# Altium footprint library 2.62-SMD.PcbLib: 45 footprints (part 2 of 3)
Each footprint in its own frame and in the unit in brackets; x right, y up, seen from the top. Pads: shape width x height; smd on the part's side, far side on the other; paste and mask are expansions set on the pad; w line width, h text height; cw(c..) or ccw(c..) is an arc to the next point about the centre after c.
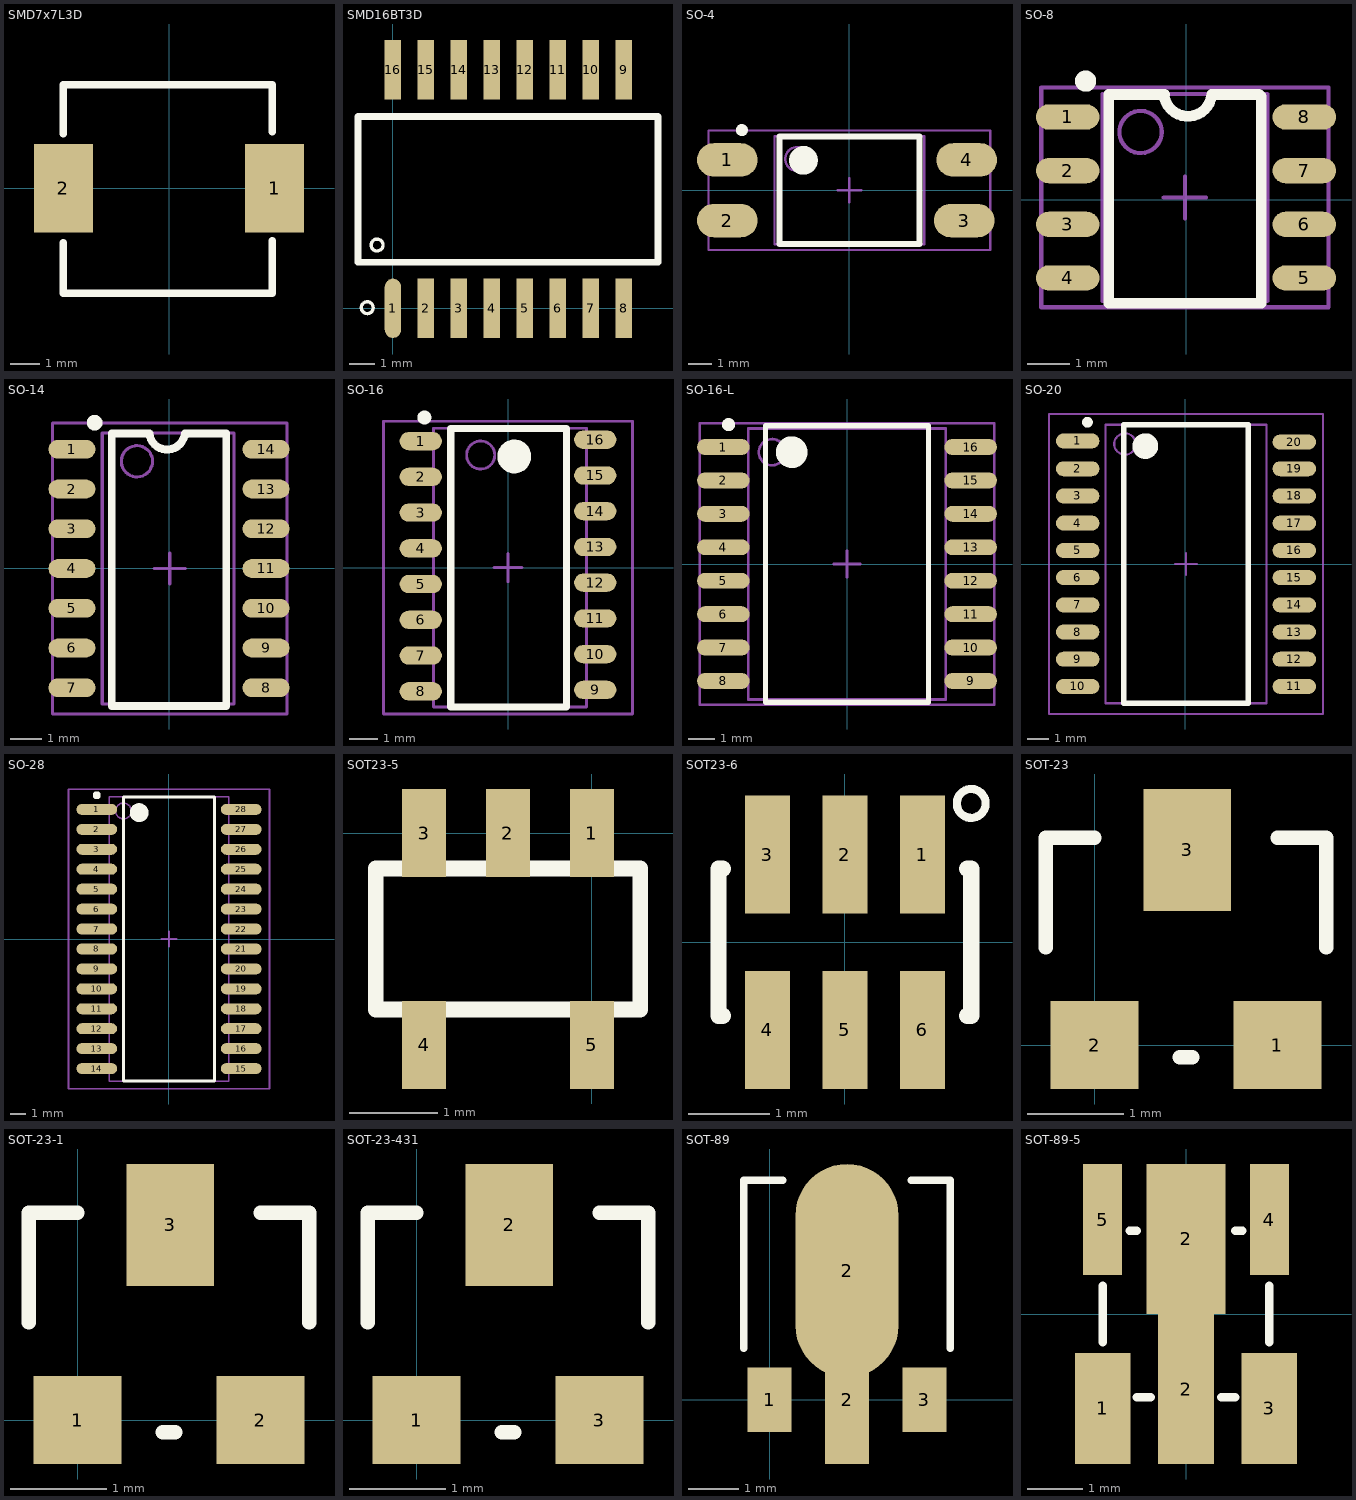
[diagram p1: the footprints below, top view; thin cyan lines are the x and y axes]

## SMD7x7L3D [mm]
height 3.5
pads (2):
  rect 2x3 smd: 1(3.561,0) 2(-3.561,0)
Top Overlay:
  lines w0.254: -3.561,-1.834 -3.561,-3.548 3.489,-3.548 3.488,-1.779 ; -3.561,1.849 -3.561,3.5 3.489,3.5 3.488,1.911
3D body: height 2.45, standoff 0.03, extent -3.429,-3.302 3.429,3.302

## SMD16BT3D [mil]
height 23.62
pads (16):
  oval 25x90 smd: 1(0,0)
  rect 25x90 smd: 2(50,0) 3(100,0) 4(150,0) 5(200,0) 6(250,0) 7(300,0) 8(350,0) 9(350,362) 10(300,362) 11(250,362) 12(200,362) 13(150,362) 14(100,362) 15(50,362) 16(0,362)
Top Overlay:
  circle w5: c-24,96 r9
  circle w5: c-39,1 r9
  lines w10: -53,70 -53,291 402,291 402,70 -53,70
3D body: height 96.46, standoff 1.09, extent -67.38,55.17 417.62,305.17

## SO-4 [mm] "SOP, 4-Leads, Body 4.5x6.3mm (max), Pitch 2.54mm, IPC Medium Density"
height 3.9
pads (4):
  oval 2.54x1.4 smd: 1(-5.11,1.27) 2(-5.11,-1.27) 3(4.805,-1.27) 4(4.906,1.27)
Top Overlay:
  circle w0.25: c-4.5,2.52 r0.125
  circle w0.6: c-1.925,1.25 r0.3
  lines w0.254: -2.925,-2.25 -2.925,2.25 2.925,2.25 2.925,-2.25 -2.925,-2.25
Mechanical 13:
  circle w0.1: c-2.185,1.31 r0.5
  lines w0.1: -3.135,-2.26 -3.135,2.26 3.135,2.26 3.135,-2.26 -3.135,-2.26
Mechanical 15:
  lines w0.1: -0.5,0 0.5,0 ; 0,-0.5 0,0.5 ; -5.9,-2.5 -5.9,2.5 5.9,2.5 5.9,-2.5 -5.9,-2.5
3D body "User Library-DIP4_opto_iso.STEP": height 3.94, standoff 0.04, extent -5.066,-2.489 4.964,2.342

## SO-8 [mm]
pads (8):
  oval 1.5x0.6 smd: 1(-2.8,1.956) 2(-2.8,0.686) 3(-2.8,-0.584) 4(-2.8,-1.854) 5(2.8,-1.854) 6(2.8,-0.584) 7(2.8,0.686) 8(2.8,1.956)
Top Overlay:
  circle w0.25: c-2.375,2.806 r0.125
  lines w0.254: -0.522,2.488 ccw(c0.044,2.54) 0.61,2.489 1.727,2.489 1.778,2.438 1.778,-2.449 -1.829,-2.449 -1.829,2.489 -0.508,2.489
Mechanical 13:
  circle w0.1: c-1.075,1.601 r0.5
  lines w0.1: -1.975,-2.399 1.925,-2.399 1.925,2.501 -1.975,2.501 -1.975,-2.399
Mechanical 15:
  lines w0.1: -0.525,0.051 0.475,0.051 ; -0.025,-0.449 -0.025,0.551 ; -3.425,-2.549 3.375,-2.549 3.375,2.651 -3.425,2.651 -3.425,-2.549
3D body "SO-8.STEP": height -0.38, standoff -2.08, extent -3,-2.411 3,2.489

## SO-14 [mm] "1.25mm/6.2mm"
pads (14):
  oval 1.5x0.6 smd: 1(-3.1,3.81) 2(-3.1,2.54) 3(-3.1,1.27) 4(-3.1,0) 5(-3.1,-1.27) 6(-3.1,-2.54) 7(-3.1,-3.81) 8(3.1,-3.81) 9(3.1,-2.54) 10(3.1,-1.27) 11(3.1,0) 12(3.1,1.27) 13(3.1,2.54) 14(3.1,3.81)
Top Overlay:
  circle w0.25: c-2.375,4.66 r0.125
  lines w0.254: -0.66,4.318 -1.829,4.318 -1.829,-4.4 1.829,-4.4 1.829,4.318 0.559,4.318 ; -0.626,4.317 ccw(c-0.06,4.369) 0.506,4.318
Mechanical 13:
  circle w0.1: c-1.025,3.425 r0.5
  lines w0.1: -2.134,-4.325 -2.134,4.325 2.083,4.325 2.083,-4.325 -2.134,-4.325
Mechanical 15:
  lines w0.1: -0.475,0 0.525,0 ; 0.025,-0.5 0.025,0.5 ; -3.725,-4.65 -3.725,4.65 3.775,4.65 3.775,-4.65 -3.725,-4.65
3D body "so14.step": height 1.55, standoff 0, extent -2.946,-4.325 3.054,4.325

## SO-16 [mm]
height 1.35
pads (16):
  oval 1.5x0.65 smd: 1(-3.1,4.496) 2(-3.1,3.226) 3(-3.1,1.956) 4(-3.1,0.686) 5(-3.1,-0.584) 6(-3.1,-1.854) 7(-3.1,-3.124) 8(-3.1,-4.394) 9(3.1,-4.343) 10(3.1,-3.073) 11(3.1,-1.803) 12(3.1,-0.533) 13(3.1,0.737) 14(3.1,2.007) 15(3.1,3.277) 16(3.1,4.547)
Top Overlay:
  circle w0.25: c-2.97,5.334 r0.125
  circle w0.6: c0.225,3.95 r0.3
  lines w0.254: -2.032,-4.95 -2.032,4.95 2.083,4.95 2.083,-4.95 -2.032,-4.95
Mechanical 13:
  circle w0.1: c-0.97,4 r0.5
  lines w0.1: -2.642,-4.95 -2.642,4.95 2.794,4.95 2.794,-4.95 -2.642,-4.95
Mechanical 15:
  lines w0.1: -0.5,0 0.5,0 ; 0,-0.5 0,0.5 ; -4.42,-5.2 -4.42,5.2 4.42,5.2 4.42,-5.2 -4.42,-5.2
3D body "D0016A.stp": height 1.64, standoff 0.04, extent -2.946,-4.851 3.048,5.055

## SO-16-L [mm] "16-Pin Small Outline Integrated Circuit 1.27 mm Pitch, IPC High Density"
height 2.65
pads (16):
  oval 2x0.6 smd: 1(-4.7,4.445) 2(-4.7,3.175) 3(-4.7,1.905) 4(-4.7,0.635) 5(-4.7,-0.635) 6(-4.7,-1.905) 7(-4.7,-3.175) 8(-4.7,-4.445) 9(4.7,-4.445) 10(4.7,-3.175) 11(4.7,-1.905) 12(4.7,-0.635) 13(4.7,0.635) 14(4.7,1.905) 15(4.7,3.175) 16(4.7,4.445)
Top Overlay:
  circle w0.25: c-4.5,5.295 r0.125
  circle w0.6: c-2.1,4.25 r0.3
  lines w0.2: -3.1,-5.25 -3.1,5.25 3.1,5.25 3.1,-5.25 -3.1,-5.25
Mechanical 13:
  circle w0.1: c-2.85,4.25 r0.5
  lines w0.1: -3.75,-5.15 -3.75,5.15 3.75,5.15 3.75,-5.15 -3.75,-5.15
Mechanical 15:
  lines w0.1: -0.5,0 0.5,0 ; 0,-0.5 0,0.5 ; -5.6,-5.35 -5.6,5.35 5.6,5.35 5.6,-5.35 -5.6,-5.35
3D body "User Library-SOIC16-300.STEP": height 2.65, standoff 0, extent -5.182,-5.144 5.118,5.156

## SO-20 [mil]
pads (20):
  oval 80x27.56 smd: 1(-198,226) 2(-198,175) 3(-198,125) 4(-198,75) 5(-198,25) 6(-198,-25) 7(-198,-75) 8(-198,-125) 9(-198,-175) 10(-198,-225) 11(200,-225) 12(200,-175) 13(200,-125) 14(200,-75) 15(200,-25) 16(200,25) 17(200,75) 18(200,125) 19(200,175) 20(200,224)
Top Overlay:
  circle w23.62: c-73.8,216.54 r11.81
  circle w9.84: c-180.1,260.43 r4.92
  lines w10: -113.17,-255.91 -113.17,255.91 115.17,255.91 115.17,-255.91 -113.17,-255.91
Mechanical 13:
  circle w3.94: c-111.2,220.47 r19.68
  lines w3.94: -146.64,-255.91 -146.64,255.91 148.64,255.91 148.64,-255.91 -146.64,-255.91
Mechanical 15:
  lines w3.94: -18.68,0 20.69,0 ; 1,-19.68 1,19.68 ; -250.97,-275.59 -250.97,275.59 252.97,275.59 252.97,-275.59 -250.97,-275.59
3D body "User Library-SOIC20-300.STEP": height 104.33, standoff 0, extent -200,-251.97 205.51,251.97

## SO-28 [mm] "SOIC, 28-Leads, Body 17.9x7.5mm, Pitch 1.27mm, IPC Low Density"
height 2.65
pads (28):
  oval 2.6x0.7 smd: 1(-4.6,8.255) 2(-4.6,6.985) 3(-4.6,5.715) 4(-4.6,4.445) 5(-4.6,3.175) 6(-4.6,1.905) 7(-4.6,0.635) 8(-4.6,-0.635) 9(-4.6,-1.905) 10(-4.6,-3.175) 11(-4.6,-4.445) 12(-4.6,-5.715) 13(-4.6,-6.985) 14(-4.6,-8.255) 15(4.6,-8.255) 16(4.6,-6.985) 17(4.6,-5.715) 18(4.6,-4.445) 19(4.6,-3.175) 20(4.6,-1.905) 21(4.6,-0.635) 22(4.6,0.635) 23(4.6,1.905) 24(4.6,3.175) 25(4.6,4.445) 26(4.6,5.715) 27(4.6,6.985) 28(4.6,8.255)
Top Overlay:
  circle w0.25: c-4.6,9.155 r0.125
  circle w0.6: c-1.9,8.05 r0.3
  lines w0.2: -2.9,-9.05 -2.9,9.05 2.9,9.05 2.9,-9.05 -2.9,-9.05
Mechanical 13:
  circle w0.1: c-2.9,8.155 r0.5
  lines w0.1: -3.8,-9.055 -3.8,9.055 3.8,9.055 3.8,-9.055 -3.8,-9.055
Mechanical 15:
  lines w0.1: -0.5,0 0.5,0 ; 0,-0.5 0,0.5 ; -6.4,-9.55 -6.4,9.55 6.4,9.55 6.4,-9.55 -6.4,-9.55
3D body "User Library-80072036 SO28.STEP": height 2.63, standoff -0.01, extent -5.335,-9.038 5.335,9.042

## SOT23-5 [mm]
pads (5):
  rect 0.5x1 smd: 1(0,0) 2(-0.95,0) 3(-1.9,0) 4(-1.9,-2.4) 5(0,-2.4)
Top Overlay:
  lines w0.178: -2.45,-2 0.55,-2 0.55,-0.4 -2.45,-0.4 -2.45,-2
3D body "User Library-SOT23-5.STEP": height 1.09, standoff -0.01, extent -2.399,-2.599 0.5,0.201

## SOT23-6 [mm] "SOT-23/SC-74A; 5 Leads; Body 3.1 x 3 mm, inc. leads (LxW max)"
height 1.45
pads (6):
  rect 0.55x1.45 smd: 1(0.95,1.075) 2(0,1.075) 3(-0.95,1.075) 4(-0.95,-1.075) 5(0,-1.075) 6(0.95,-1.075)
Top Overlay:
  circle w0.1: c1.549,1.702 r0.177
  lines w0.2: -1.5,-0.9 -1.55,-0.9 -1.55,0.9 -1.5,0.9 ; 1.5,-0.9 1.55,-0.9 1.55,0.9 1.5,0.9
3D body "User Library-SOT-23-6.STEP": height 1.08, standoff -0.01, extent -1.397,-1.194 1.397,1.232

## SOT-23 [mil]
pads (3):
  rect 35.98x35.98 smd: 1(75,0) 2(0,0)
  rect 36x50 smd: 3(38,80)
Top Overlay:
  lines w5.91: -20,40 -20,85 0,85 ; 35,-5 40,-5 ; 75,85 95,85 95,40
3D body "SW3DPS-SOT-23-DEFAULT.step": height 41.34, standoff -1.97, extent -21.06,-6.5 97.06,91.93

## SOT-23-1 [mil]
pads (3):
  rect 35.98x35.98 smd: 1(0,0) 2(75,0)
  rect 36x50 smd: 3(38,80)
Top Overlay:
  lines w5.91: -20,40 -20,85 0,85 ; 35,-5 40,-5 ; 75,85 95,85 95,40
3D body "SW3DPS-SOT-23-DEFAULT.step": height 41.34, standoff -1.97, extent -21.06,-6.5 97.06,91.93

## SOT-23-431 [mm]
pads (3):
  rect 0.914x0.914 smd: 1(0,0) 3(1.905,0)
  rect 0.914x1.27 smd: 2(0.965,2.032)
Top Overlay:
  lines w0.15: -0.508,1.016 -0.508,2.159 0,2.159 ; 0.889,-0.127 1.016,-0.127 ; 1.905,2.159 2.413,2.159 2.413,1.016
3D body "SW3DPS-SOT-23-DEFAULT.step": height 1.05, standoff -0.05, extent -0.535,-0.165 2.465,2.335

## SOT-89 [mil]
pads (4):
  rect 34.02x50 smd: 1(0,0) 3(120,0)
  rect 34x100 smd: 2(60,0)
  oval 80x165.35 smd: 2(60,100)
Top Overlay:
  lines w5.91: -20,40 -20,170 10,170 ; 110,170 140,170 140,40
3D body "SW3dPS-SOT89.STEP": height 62.57, standoff -0.76, extent -30.55,-16.65 150.55,150.67

## SOT-89-5 [mm]
pads (6):
  rect 1x2 smd: 1(-1.5,-1.7) 3(1.5,-1.7)
  rect 1x2.7 smd: 2(0,-1.35)
  rect 1.422x2.7 smd: 2(0,1.35)
  rect 0.7x2 smd: 4(1.5,1.7) 5(-1.5,1.7)
Top Overlay:
  lines w0.15: -1.5,-0.508 -1.5,0.508 ; -1.016,1.5 -0.889,1.5 ; -0.889,-1.5 -0.635,-1.5 ; 0.635,-1.5 0.889,-1.5 ; 0.889,1.5 1.016,1.5 ; 1.5,-0.508 1.5,0.508
3D body "SW3dPS-SOT895-A-PKG.STEP": height 1.2, standoff -0.3, extent -2.25,-1.9 2.25,1.9